# Altium schematic symbol library IC-74XX.SchLib: 14 symbols
Pins are listed as number, name and electrical type; pins without a type are passive.

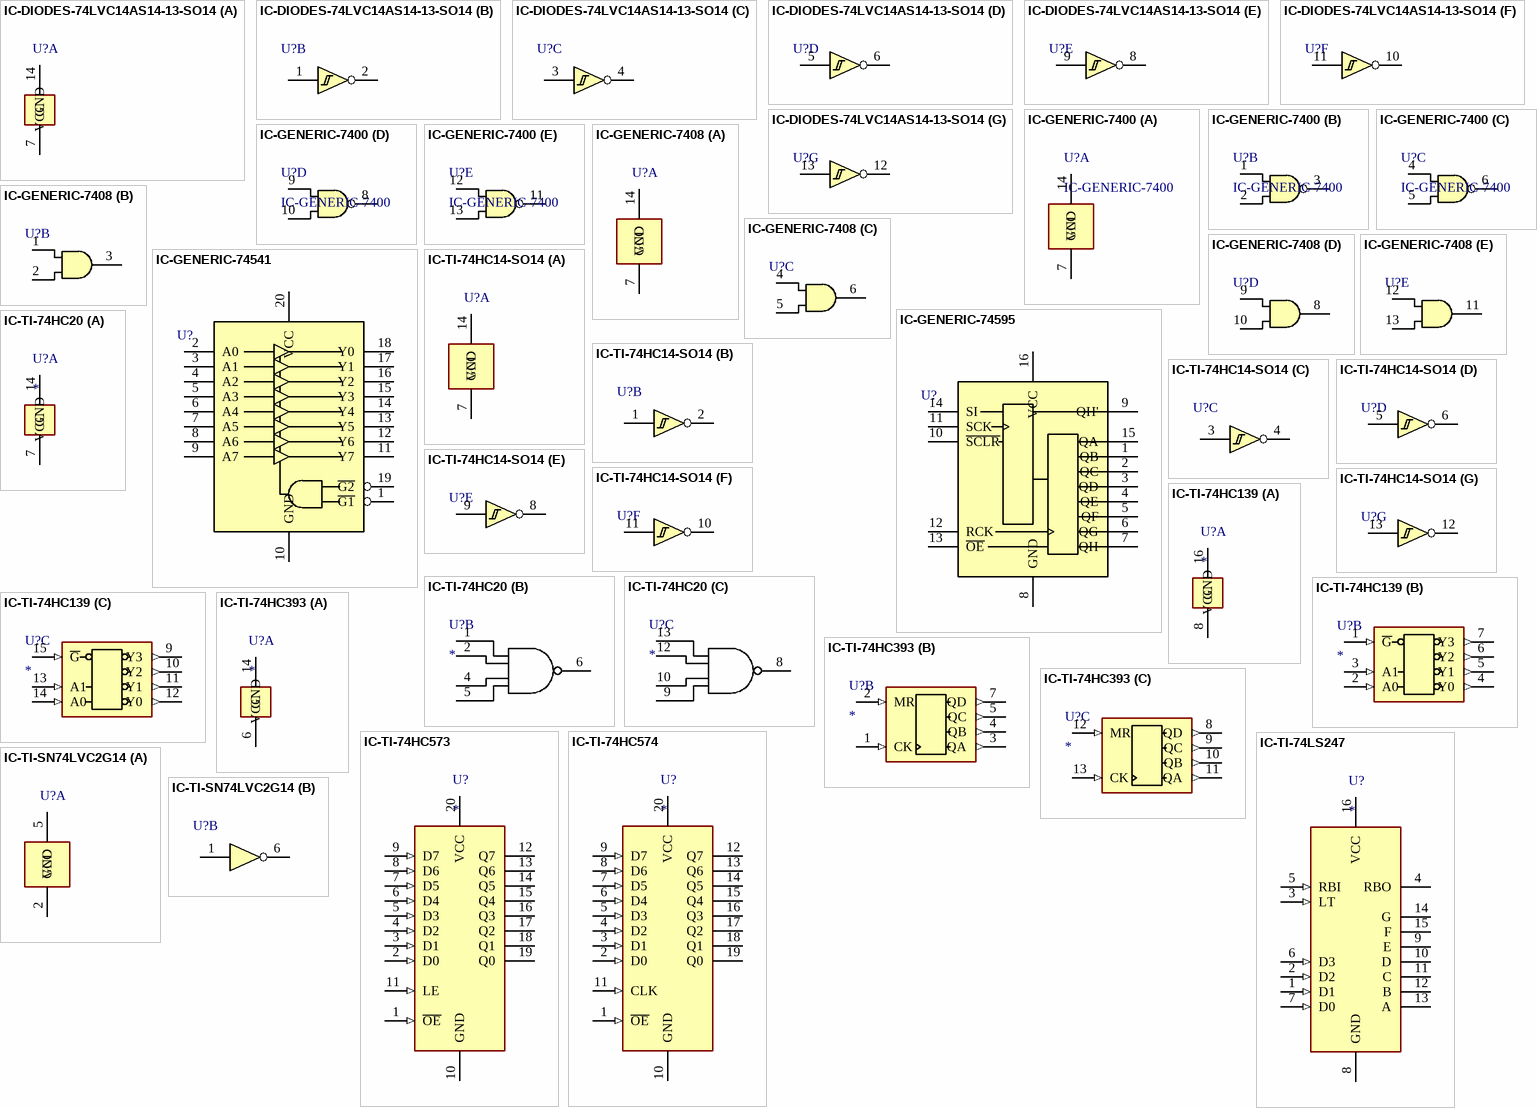
[diagram p0: symbols IC-DIODES-74LVC14AS14-13-SO14 to IC-TI-SN74LVC2G14]

## IC-DIODES-74LVC14AS14-13-SO14
designator U?, comment 74LVC14  (value not drawn)
IC,LOGIC,CMOS,74XX,HEX SCHMITTTRIGGER,74LVC14AS14-13,SO14; Manufacturer 1: DIODES; DIGIKEY: 74LVC14AS14-13DICT-ND; Manufacturer Part Number 1: 74LVC14AS14-13
footprint SO127P600-14N (SOIC127P600X175 14N)
part A pins: 7 GND, 14 VCC
part B pins: 1, 2
part C pins: 3, 4
part D pins: 5, 6
part E pins: 8, 9
part F pins: 10, 11
part G pins: 12, 13

## IC-GENERIC-7400
designator U?
IC,LOGIC,QUAD NAND,7400
part A pins: 7 GND (power), 14 VCC (power)
part B pins: 1, 2, 3
part C pins: 4, 5, 6
part D pins: 8, 9, 10
part E pins: 11, 12, 13

## IC-GENERIC-7408
designator U?  (value not drawn)
part A pins: 7 GND (power), 14 VCC (power)
part B pins: 1, 2, 3
part C pins: 4, 5, 6
part D pins: 8, 9, 10
part E pins: 11, 12, 13

## IC-GENERIC-74541
designator U?  (value not drawn)
pins: 1 ~{G1} (power), 2 A0 (power), 3 A1 (power), 4 A2 (power), 5 A3 (power), 6 A4 (power), 7 A5 (power), 8 A6 (power), 9 A7 (power), 10 GND (power), 11 Y7 (power), 12 Y6 (power), 13 Y5 (power), 14 Y4 (power), 15 Y3 (power), 16 Y2 (power), 17 Y1 (power), 18 Y0 (power), 19 ~{G2} (power), 20 VCC (power)

## IC-GENERIC-74595
designator U?  (value not drawn)
pins: 1 QB (power), 2 QC (power), 3 QD (power), 4 QE (power), 5 QF (power), 6 QG (power), 7 QH (power), 8 GND (power), 9 QH' (power), 10 ~{SCLR} (power), 11 SCK (power), 12 RCK (power), 13 ~{OE} (power), 14 SI (power), 15 QA (power), 16 VCC (power)

## IC-TI-74HC14-SO14
designator U?, comment IC-TI-74HC14  (value not drawn)
IC,LOGIC,HEX,SCHMITTTRIGGER,ONSEMI,MC74AC14DR2G,SO14; DIGIKEY: MC74AC14DR2GOSCT-ND; Manufacturer 1: ONSEMI; Manufacturer Part Number 1: MC74AC14DR2G
footprint SOT23-6 (SOT23 PACKAGE, 6 PIN (SOT26))
part A pins: 7 GND (power), 14 VCC (power)
part B pins: 1, 2
part C pins: 3, 4
part D pins: 5, 6
part E pins: 8, 9
part F pins: 10, 11
part G pins: 12, 13

## IC-TI-74HC20
designator U?
IC,LOGIC,DUAL 4-INPUT NAND
part A pins: 7 GND, 14 VCC
part B pins: 1 1A, 2 1B, 4 1C, 5 1D, 6 1Y
part C pins: 8 2Y, 9 2A, 10 2B, 12 2C, 13 2D

## IC-TI-74HC139
designator U?
IC,LOGIC,DUAL 2-TO-4 DECODER
part A pins: 8 GND, 16 VCC
part B pins: 1 ~{G} (in), 2 A0 (in), 3 A1 (in), 4 Y0 (out), 5 Y1 (out), 6 Y2 (out), 7 Y3 (out)
part C pins: 9 Y3 (out), 10 Y2 (out), 11 Y1 (out), 12 Y0 (out), 13 A1 (in), 14 A0 (in), 15 ~{G} (in)

## IC-TI-74HC393
designator U?
IC.LOGIC,DUAL 4 BIT COUNTER
part A pins: 6 GND, 14 VCC
part B pins: 1 CK (in), 2 MR (in), 3 QA (out), 4 QB (out), 5 QC (out), 7 QD (out)
part C pins: 8 QD (out), 9 QC (out), 10 QB (out), 11 QA (out), 12 MR (in), 13 CK (in)

## IC-TI-74HC573
designator U?
OCTAL BUS LATCH
pins: 1 ~{OE} (in), 2 D0 (in), 3 D1 (in), 4 D2 (in), 5 D3 (in), 6 D4 (in), 7 D5 (in), 8 D6 (in), 9 D7 (in), 10 GND, 11 LE (in), 12 Q7 (hiz), 13 Q6 (hiz), 14 Q5 (hiz), 15 Q4 (hiz), 16 Q3 (hiz), 17 Q2 (hiz), 18 Q1 (hiz), 19 Q0 (hiz), 20 VCC

## IC-TI-74HC574
designator U?
OCTAL BUS REGISTER
pins: 1 ~{OE} (in), 2 D0 (in), 3 D1 (in), 4 D2 (in), 5 D3 (in), 6 D4 (in), 7 D5 (in), 8 D6 (in), 9 D7 (in), 10 GND, 11 CLK (in), 12 Q7 (hiz), 13 Q6 (hiz), 14 Q5 (hiz), 15 Q4 (hiz), 16 Q3 (hiz), 17 Q2 (hiz), 18 Q1 (hiz), 19 Q0 (hiz), 20 VCC

## IC-TI-74LS247
designator U?
IC,LOGIC,BCD TO 7-SEGMENT DECODER
pins: 1 D1 (in), 2 D2 (in), 3 LT (in), 4 RBO, 5 RBI (in), 6 D3 (in), 7 D0 (in), 8 GND (power), 9 E, 10 D, 11 C, 12 B, 13 A, 14 G, 15 F, 16 VCC (power)

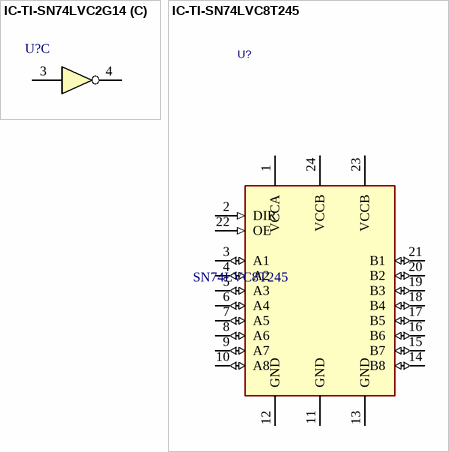
[diagram p1: symbols IC-TI-SN74LVC2G14 to IC-TI-SN74LVC8T245]

## IC-TI-SN74LVC2G14
designator U?  (value not drawn)
IC,LOGIC,SINGLEGATE,DUAL SCHMITT-TRIGER,INVERTER,SOT23-6; Manufacturer Part Number 1: 74LVC2G14GV; LCSC: C19829598
footprint SOT23-6 (SOT23 PACKAGE, 6 PIN (SOT26))
part A pins: 2 GND (power), 5 VCC (power)
part B pins: 1, 6
part C pins: 3, 4

## IC-TI-SN74LVC8T245
designator U?, comment SN74LVC8T245
P/N: SN74LVC8T245PWR; LCSC: C27643
footprint TSSOP-24_4.4x7.8mm_P0.65mm
pins: 1 VCCA (power), 2 DIR (in), 3 A1 (io), 4 A2 (io), 5 A3 (io), 6 A4 (io), 7 A5 (io), 8 A6 (io), 9 A7 (io), 10 A8 (io), 11 GND (power), 12 GND (power), 13 GND (power), 14 B8 (io), 15 B7 (io), 16 B6 (io), 17 B5 (io), 18 B4 (io), 19 B3 (io), 20 B2 (io), 21 B1 (io), 22 OE (in), 23 VCCB (power), 24 VCCB (power)